# Altium schematic symbol library MBR0540.SchLib: 1 symbol
Pins are listed as number, name and electrical type; pins without a type are passive.

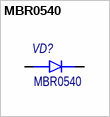
[diagram p0: symbol MBR0540]

## MBR0540
designator VD?
Schottky diode; Назначение: Диод шотки; Потребление, Вт: 0,001; Наименование: MBR0540
footprint SOD-123
pins: 1 Cathode, 2 Anode